# EAGLE library part SD_MICRO_SOCKET (library MTAES_V2_UniqueParts)
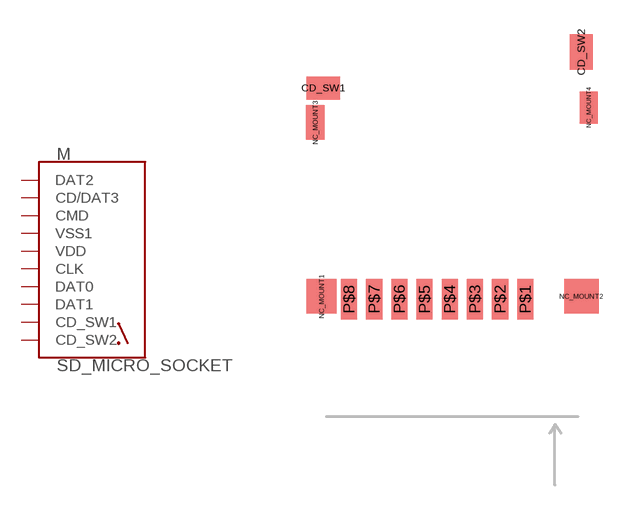
[diagram p0: symbol with the pads of SD_AMPHENOL_PUSH_PULL; footprint SD_AMPHENOL_PUSH_PULL]

Designator prefix M

## SD_MICRO_SOCKET-114-00841-68  [SD_AMPHENOL_PUSH_PULL]
CD_SW1  CD_SW1
CD_SW2  CD_SW2
P$1  DAT2
P$2  CD/DAT3
P$3  CMD
P$4  VDD
P$5  CLK
P$6  VSS1
P$7  DAT0
P$8  DAT1

## Footprint SD_AMPHENOL_PUSH_PULL (pad centres in mm)
smd 1.45 x 1: CD_SW1 -1.125,8.35
smd 1 x 1.55: CD_SW2 10.15,9.925
smd 1.3 x 1.5: NC_MOUNT1 -1.2,-0.75
smd 1.5 x 1.5: NC_MOUNT2 10.15,-0.75
smd 0.8 x 1.5: NC_MOUNT3 -1.475,6.85
smd 0.8 x 1.4: NC_MOUNT4 10.475,7.5
smd 0.7 x 1.75: P$1 7.7,-0.875; P$2 6.6,-0.875; P$3 5.5,-0.875; P$4 4.4,-0.875; P$5 3.3,-0.875; P$6 2.2,-0.875; P$7 1.1,-0.875; P$8 0,-0.875